# Altium schematic symbol library HEADER_3.SchLib: 1 symbol
Pins are listed as number, name and electrical type; pins without a type are passive.

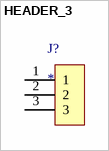
[diagram p0: symbol HEADER_3]

## HEADER_3
designator J?
3-pin Header
pins: 1, 2, 3